# Altium footprint library UFDFN-3.PcbLib: 1 footprints
Each footprint in its own frame and in the unit in brackets; x right, y up, seen from the top. Pads: shape width x height; smd on the part's side, far side on the other; paste and mask are expansions set on the pad; w line width, h text height; cw(c..) or ccw(c..) is an arc to the next point about the centre after c.
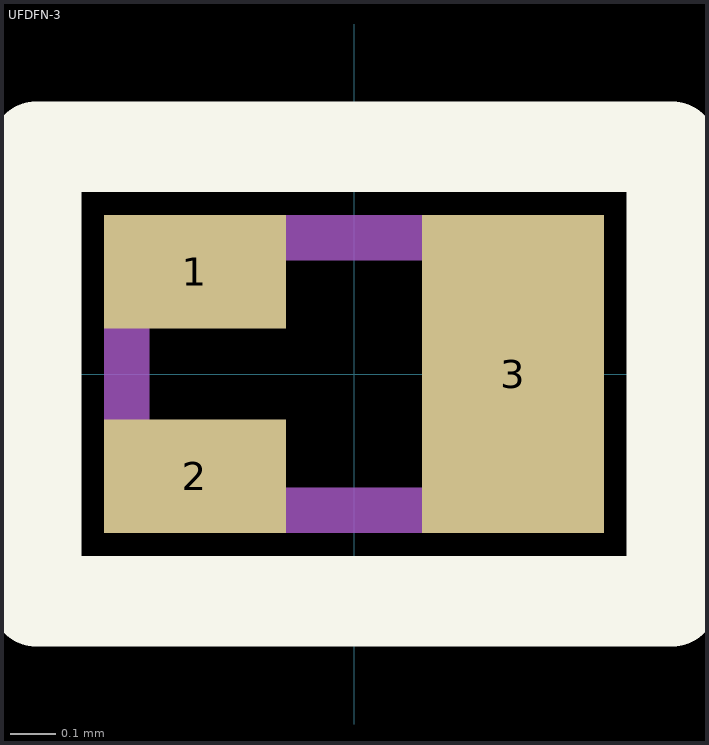
[diagram p0: the footprint, top view; thin cyan lines are the x and y axes]

## UFDFN-3 [mm]
height 0.5
pads (3):
  rect 0.4x0.25 smd paste+0 mask+0.05: 1(-0.35,0.225) 2(-0.35,-0.225)
  rect 0.4x0.7 smd paste+0 mask+0.05: 3(0.35,0)
Top Overlay:
  lines w0.2: -0.7,-0.5 0.7,-0.5 0.7,0.5 -0.7,0.5 -0.7,-0.5
Top Assembly:
  lines w0.1: -0.5,-0.3 0.5,-0.3 0.5,0.3 -0.5,0.3 -0.5,-0.3
  text "'.Designator'" at 0,0 h0.7
3D body "UFDFN-3.stp": height 0.5, standoff 0, extent -0.5,-0.3 0.5,0.3